# Altium schematic symbol library TNPW020125R0BEED.SchLib: 2 symbols
Pins are listed as number, name and electrical type; pins without a type are passive.

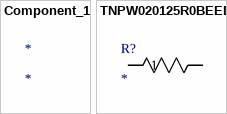
[diagram p0: symbols Component_1 to TNPW020125R0BEED]

## Component_1
designator *

## TNPW020125R0BEED
designator R?
No Description Available; Mfr_Name: Vishay
footprint RES_TNPW0201_VIS
pins: 1, 2